# Altium integrated library NSC Switcher.IntLib: 2027 symbols (part 34 of 54)
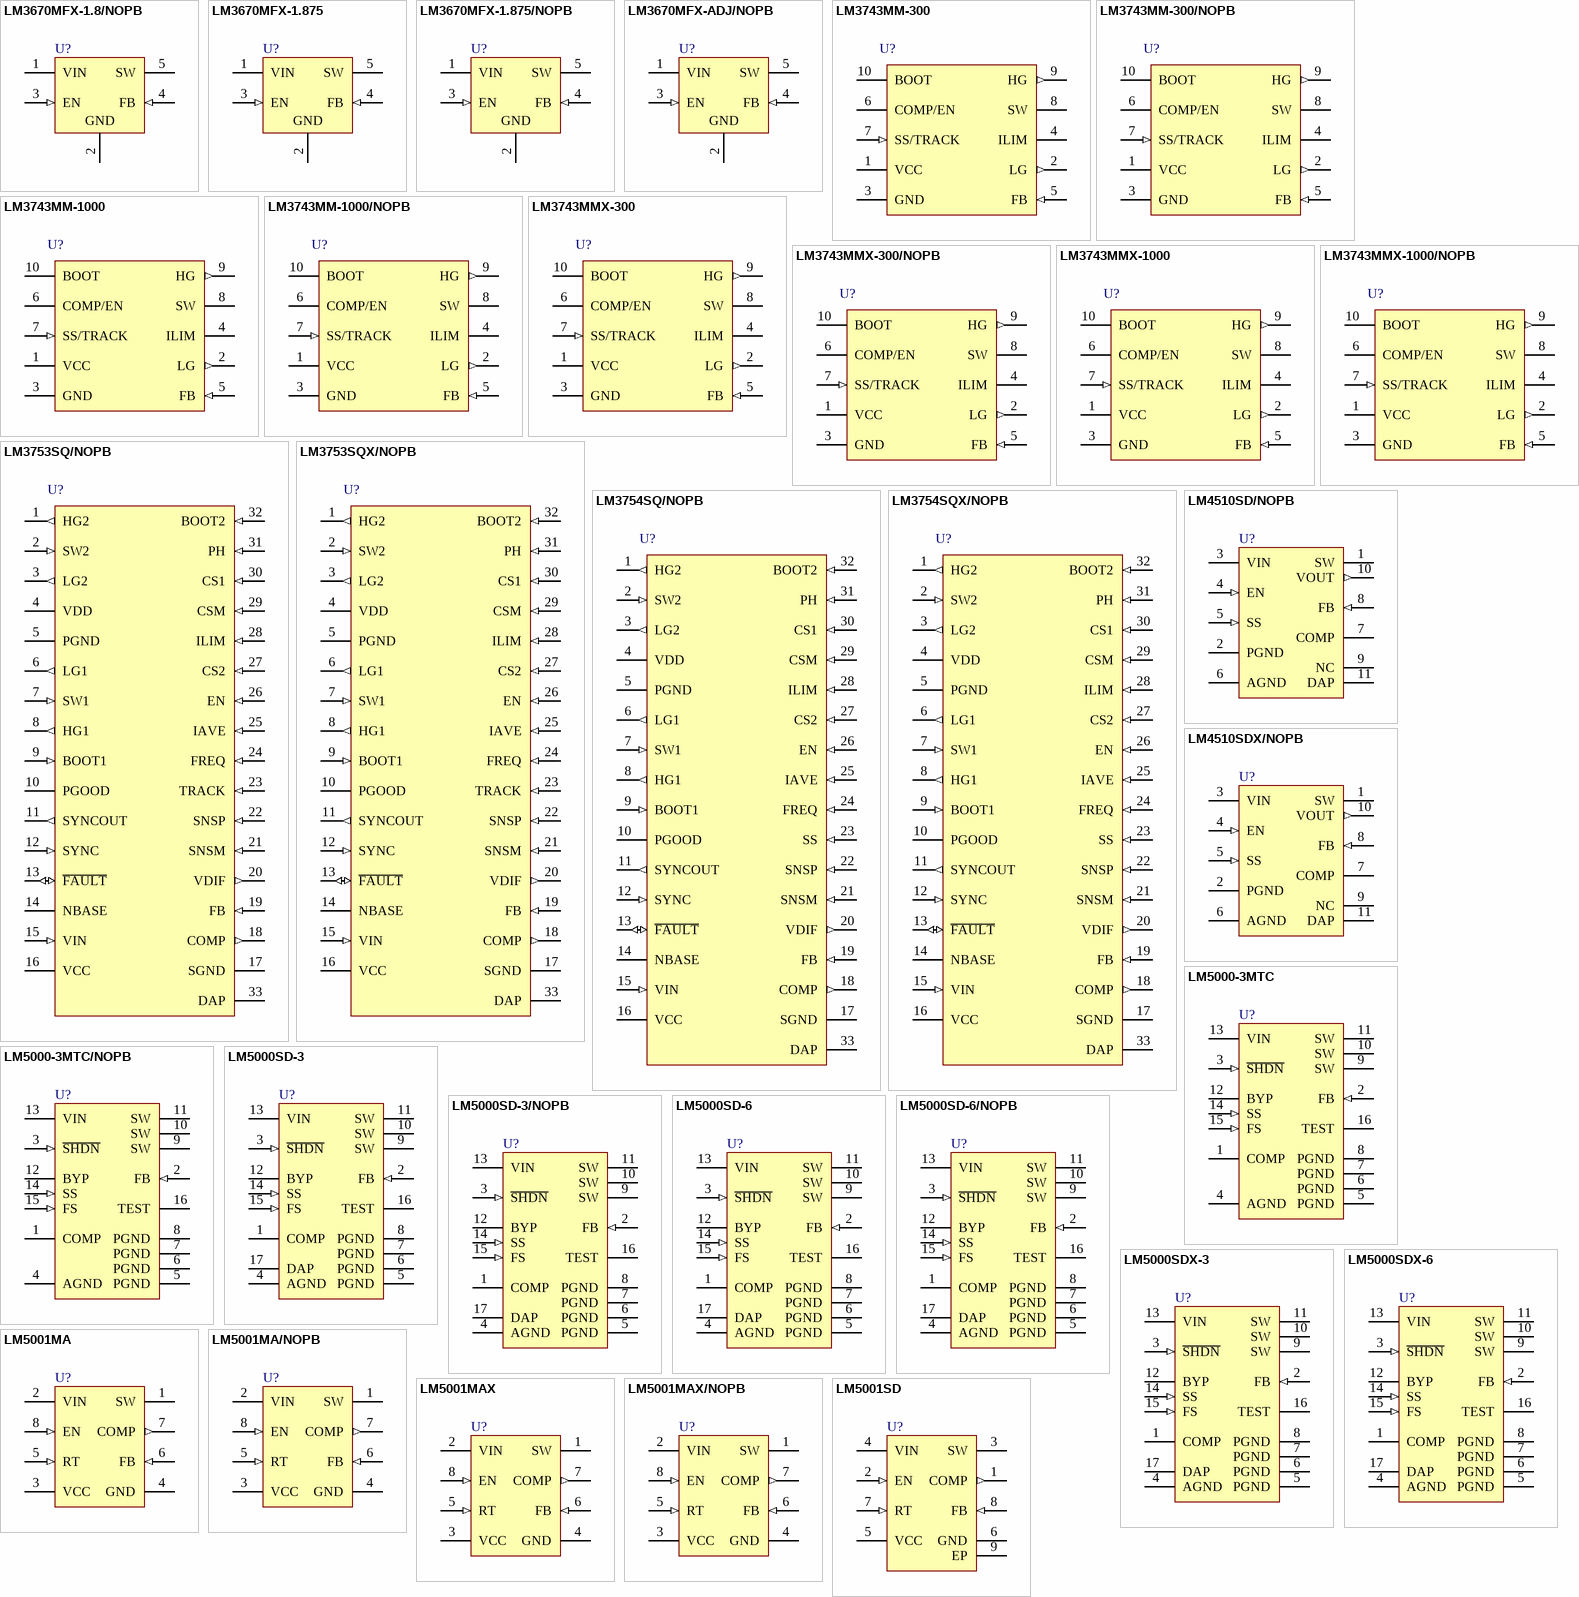
[diagram p96: symbols LM3670MFX-1.8/NOPB to LM5001SD]

## LM5000SDX-3
designator U?
High Voltage Switch Mode Regulator, 16-pin LLP; PartNumber: LM5000SDX-3; Manufacturer: National Semiconductor; PackageTopMarking: NS*UZXYTT*5000-3; PowerWise: N; CompType: Switcher; Published: 1-Mar-2010; DatasheetVersion: Feb-2007; PackageVersion: revA, May-2003; PackageReference: SDA16A; Publisher: Altium Limited; PackageDescription: LLP, Plastic, Dual, 5 x 5 x 0.8mm Body,16 Lead, 0.5mm Pitch, No Pullback; RoHS: N; PinCount: 16; ComponentLink1Description: LM5000 Datasheet; ComponentLink1URL: http://www.national.com/ds/LM/LM5000.pdf; ComponentLink2Description: LM5000 Web Page; ComponentLink2URL: http://www.national.com/pf/LM/LM5000.html; ComponentLink3Description: SDA16A Package Page; ComponentLink3URL: http://www.national.com/packaging/folders/sda16a.html
footprint SDA16A (SON, 16-Leads, Body 5x5mm, Pitch 0.5mm, NSC Recommended)
pins: 1 COMP, 2 FB (in), 3 ~{SHDN} (in), 4 AGND (power), 5 PGND (power), 6 PGND (power), 7 PGND (power), 8 PGND (power), 9 SW (power), 10 SW (power), 11 SW (power), 12 BYP, 13 VIN (power), 14 SS (in), 15 FS (in), 16 TEST, 17 DAP (power)

## LM5000SDX-6
designator U?
High Voltage Switch Mode Regulator, 16-pin LLP; PartNumber: LM5000SDX-6; Manufacturer: National Semiconductor; PackageTopMarking: NS*UZXYTT*5000-6; PowerWise: N; CompType: Switcher; Published: 1-Mar-2010; DatasheetVersion: Feb-2007; PackageVersion: revA, May-2003; PackageReference: SDA16A; Publisher: Altium Limited; PackageDescription: LLP, Plastic, Dual, 5 x 5 x 0.8mm Body,16 Lead, 0.5mm Pitch, No Pullback; RoHS: N; PinCount: 16; ComponentLink1Description: LM5000 Datasheet; ComponentLink1URL: http://www.national.com/ds/LM/LM5000.pdf; ComponentLink2Description: LM5000 Web Page; ComponentLink2URL: http://www.national.com/pf/LM/LM5000.html; ComponentLink3Description: SDA16A Package Page; ComponentLink3URL: http://www.national.com/packaging/folders/sda16a.html
footprint SDA16A (SON, 16-Leads, Body 5x5mm, Pitch 0.5mm, NSC Recommended)
pins: 1 COMP, 2 FB (in), 3 ~{SHDN} (in), 4 AGND (power), 5 PGND (power), 6 PGND (power), 7 PGND (power), 8 PGND (power), 9 SW (power), 10 SW (power), 11 SW (power), 12 BYP, 13 VIN (power), 14 SS (in), 15 FS (in), 16 TEST, 17 DAP (power)

## LM5001MA
designator U?
High Voltage Switch Mode Regulator, 8-pin Narrow SOIC; PartNumber: LM5001MA; Manufacturer: National Semiconductor; PackageTopMarking: NSZXTT*L5001*MA; PowerWise: N; CompType: Switcher; Published: 4-Dec-2008; DatasheetVersion: Mar-2009; PackageVersion: revM, May-2009; PackageReference: M08A; Publisher: Altium Limited; PackageDescription: SOIC Narrow, 4.9 x 3.9 x 1.45mm, 8 Lead, 1.27mm Pitch; Supplier 1: Farnell; Supplier Part Number 1: 1325417; RoHS: N; PinCount: 8; Code_JEDEC: MS-012-AA; Code_IPC: SOIC127P600-8; ComponentLink1Description: LM5001 Datasheet; ComponentLink1URL: http://www.national.com/ds/LM/LM5001.pdf; ComponentLink2Description: LM5001 Web Page; ComponentLink2URL: http://www.national.com/pf/LM/LM5001.html; ComponentLink3Description: M08A Package Page; ComponentLink3URL: http://www.national.com/packaging/folders/m08a.html
footprint M08A_N (SOIC, 8-Leads, Body 4.9x3.9mm, Pitch 1.27mm, IPC Medium Density)
footprint M08A_L (SOIC, 8-Leads, Body 4.9x3.9mm, Pitch 1.27mm, IPC High Density)
footprint M08A_M (SOIC, 8-Leads, Body 4.9x3.9mm, Pitch 1.27mm, IPC Low Density)
pins: 1 SW (power), 2 VIN (power), 3 VCC (power), 4 GND (power), 5 RT (in), 6 FB (in), 7 COMP (out), 8 EN (in)

## LM5001MA/NOPB
designator U?
High Voltage Switch Mode Regulator, 8-pin Narrow SOIC, Pb-Free; PartNumber: LM5001MA/NOPB; Manufacturer: National Semiconductor; PackageTopMarking: NSZXTT*L5001*MA; PowerWise: N; CompType: Switcher; Published: 1-Mar-2010; DatasheetVersion: Mar-2009; PackageVersion: revM, May-2009; PackageReference: M08A; Publisher: Altium Limited; PackageDescription: SOIC Narrow, 4.9 x 3.9 x 1.45mm, 8 Lead, 1.27mm Pitch; Supplier 1: Digi-Key; Supplier Part Number 1: LM5001MA-ND; Supplier 2: Farnell; Supplier Part Number 2: 1564779; RoHS: Y; PinCount: 8; Code_JEDEC: MS-012-AA; Code_IPC: SOIC127P600-8; ComponentLink1Description: LM5001 Datasheet; ComponentLink1URL: http://www.national.com/ds/LM/LM5001.pdf; ComponentLink2Description: LM5001 Web Page; ComponentLink2URL: http://www.national.com/pf/LM/LM5001.html; ComponentLink3Description: M08A Package Page; ComponentLink3URL: http://www.national.com/packaging/folders/m08a.html
footprint M08A_N (SOIC, 8-Leads, Body 4.9x3.9mm, Pitch 1.27mm, IPC Medium Density)
footprint M08A_L (SOIC, 8-Leads, Body 4.9x3.9mm, Pitch 1.27mm, IPC High Density)
footprint M08A_M (SOIC, 8-Leads, Body 4.9x3.9mm, Pitch 1.27mm, IPC Low Density)
pins: 1 SW (power), 2 VIN (power), 3 VCC (power), 4 GND (power), 5 RT (in), 6 FB (in), 7 COMP (out), 8 EN (in)

## LM5001MAX
designator U?
High Voltage Switch Mode Regulator, 8-pin Narrow SOIC; PartNumber: LM5001MAX; Manufacturer: National Semiconductor; PackageTopMarking: NSZXTT*L5001*MA; PowerWise: N; CompType: Switcher; Published: 1-Mar-2010; DatasheetVersion: Mar-2009; PackageVersion: revM, May-2009; PackageReference: M08A; Publisher: Altium Limited; PackageDescription: SOIC Narrow, 4.9 x 3.9 x 1.45mm, 8 Lead, 1.27mm Pitch; RoHS: N; PinCount: 8; Code_JEDEC: MS-012-AA; Code_IPC: SOIC127P600-8; ComponentLink1Description: LM5001 Datasheet; ComponentLink1URL: http://www.national.com/ds/LM/LM5001.pdf; ComponentLink2Description: LM5001 Web Page; ComponentLink2URL: http://www.national.com/pf/LM/LM5001.html; ComponentLink3Description: M08A Package Page; ComponentLink3URL: http://www.national.com/packaging/folders/m08a.html
footprint M08A_N (SOIC, 8-Leads, Body 4.9x3.9mm, Pitch 1.27mm, IPC Medium Density)
footprint M08A_L (SOIC, 8-Leads, Body 4.9x3.9mm, Pitch 1.27mm, IPC High Density)
footprint M08A_M (SOIC, 8-Leads, Body 4.9x3.9mm, Pitch 1.27mm, IPC Low Density)
pins: 1 SW (power), 2 VIN (power), 3 VCC (power), 4 GND (power), 5 RT (in), 6 FB (in), 7 COMP (out), 8 EN (in)

## LM5001MAX/NOPB
designator U?
High Voltage Switch Mode Regulator, 8-pin Narrow SOIC, Pb-Free; PartNumber: LM5001MAX/NOPB; Manufacturer: National Semiconductor; PackageTopMarking: NSZXTT*L5001*MA; PowerWise: N; CompType: Switcher; Published: 1-Mar-2010; DatasheetVersion: Mar-2009; PackageVersion: revM, May-2009; PackageReference: M08A; Publisher: Altium Limited; PackageDescription: SOIC Narrow, 4.9 x 3.9 x 1.45mm, 8 Lead, 1.27mm Pitch; Supplier 1: Digi-Key; Supplier Part Number 1: LM5001MAX-ND; RoHS: Y; PinCount: 8; Code_JEDEC: MS-012-AA; Code_IPC: SOIC127P600-8; ComponentLink1Description: LM5001 Datasheet; ComponentLink1URL: http://www.national.com/ds/LM/LM5001.pdf; ComponentLink2Description: LM5001 Web Page; ComponentLink2URL: http://www.national.com/pf/LM/LM5001.html; ComponentLink3Description: M08A Package Page; ComponentLink3URL: http://www.national.com/packaging/folders/m08a.html
footprint M08A_N (SOIC, 8-Leads, Body 4.9x3.9mm, Pitch 1.27mm, IPC Medium Density)
footprint M08A_L (SOIC, 8-Leads, Body 4.9x3.9mm, Pitch 1.27mm, IPC High Density)
footprint M08A_M (SOIC, 8-Leads, Body 4.9x3.9mm, Pitch 1.27mm, IPC Low Density)
pins: 1 SW (power), 2 VIN (power), 3 VCC (power), 4 GND (power), 5 RT (in), 6 FB (in), 7 COMP (out), 8 EN (in)

## LM5001SD
designator U?
High Voltage Switch Mode Regulator, 8-pin LLP; PartNumber: LM5001SD; Manufacturer: National Semiconductor; PackageTopMarking: NS*UZXYTT*LM5001; PowerWise: N; CompType: Switcher; Published: 4-Dec-2008; LatestRevisionDate: 28-Jan-2010; LatestRevisionNote: Sch pinout fixed.; DatasheetVersion: Mar-2009; PackageVersion: revA, Jun-2003; PackageReference: SDC08A; Publisher: Altium Limited; PackageDescription: LLP, Plastic, Dual, 4 x 4 x 0.8mm Body, 8 Lead, 0.8mm Pitch, No Pullback; Supplier 1: Farnell; Supplier Part Number 1: 1370032; RoHS: Y; PinCount: 8; ComponentLink1Description: LM5001 Datasheet; ComponentLink1URL: http://www.national.com/ds/LM/LM5001.pdf; ComponentLink2Description: LM5001 Web Page; ComponentLink2URL: http://www.national.com/pf/LM/LM5001.html; ComponentLink3Description: SDC08A Package Page; ComponentLink3URL: http://www.national.com/packaging/folders/sdc08a.html
footprint SDC08A (SON, 8-Leads, Body 4x4mm, Pitch 0.8mm, NSC Recommended)
pins: 1 COMP (out), 2 EN (in), 3 SW (power), 4 VIN (power), 5 VCC (power), 6 GND (power), 7 RT (in), 8 FB (in), 9 EP (power)

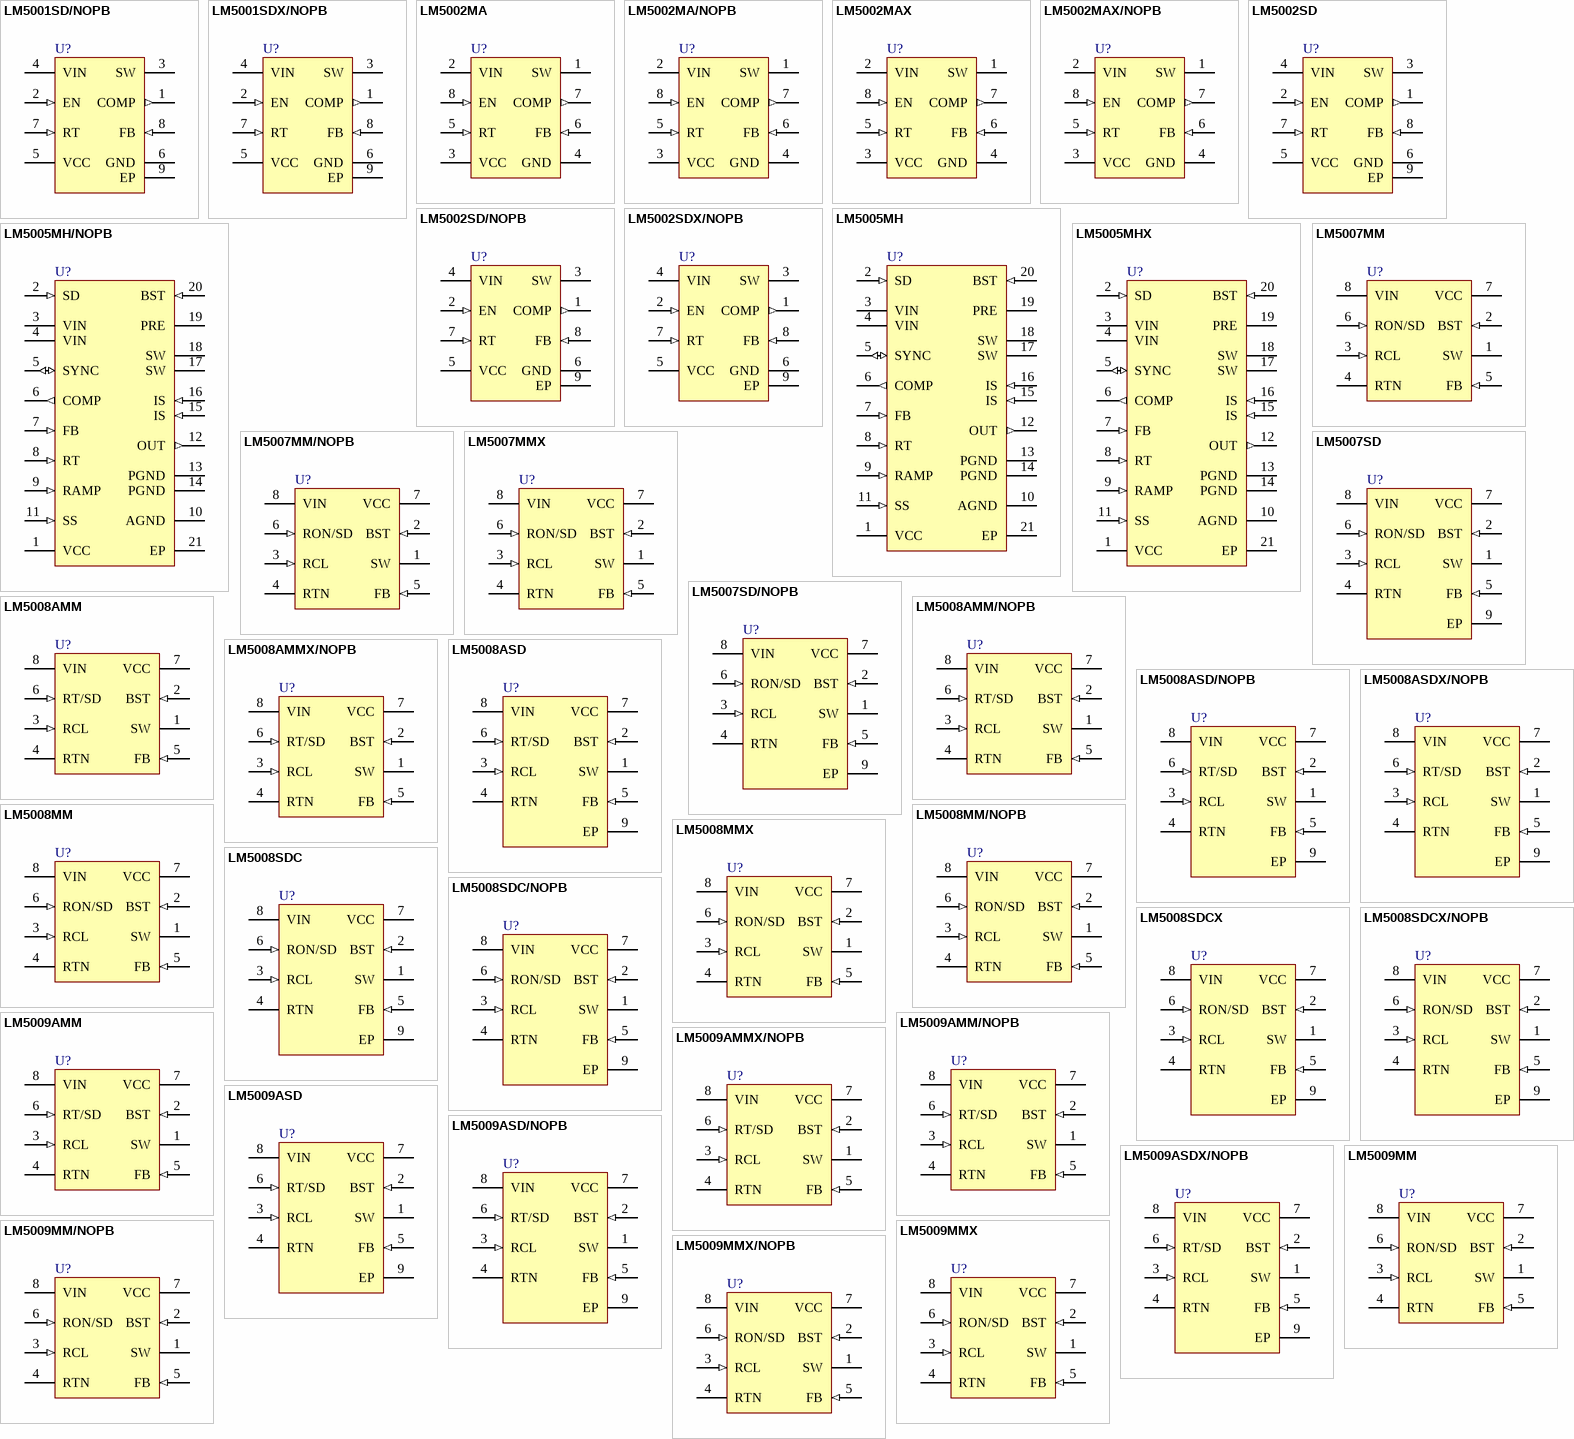
[diagram p37: symbols LM5001SD/NOPB to LM5009MMX/NOPB]

## LM5001SD/NOPB
designator U?
High Voltage Switch Mode Regulator, 8-pin LLP, Pb-Free; PartNumber: LM5001SD/NOPB; Manufacturer: National Semiconductor; PackageTopMarking: NS*UZXYTT*LM5001; PowerWise: N; CompType: Switcher; Published: 1-Mar-2010; DatasheetVersion: Mar-2009; PackageVersion: revA, Jun-2003; PackageReference: SDC08A; Publisher: Altium Limited; PackageDescription: LLP, Plastic, Dual, 4 x 4 x 0.8mm Body, 8 Lead, 0.8mm Pitch, No Pullback; Supplier 1: Digi-Key; Supplier Part Number 1: LM5001SDTR-ND; Supplier 2: Digi-Key; Supplier Part Number 2: LM5001SDCT-ND; Supplier 3: Digi-Key; Supplier Part Number 3: LM5001SDDKR-ND; RoHS: Y; PinCount: 8; ComponentLink1Description: LM5001 Datasheet; ComponentLink1URL: http://www.national.com/ds/LM/LM5001.pdf; ComponentLink2Description: LM5001 Web Page; ComponentLink2URL: http://www.national.com/pf/LM/LM5001.html; ComponentLink3Description: SDC08A Package Page; ComponentLink3URL: http://www.national.com/packaging/folders/sdc08a.html
footprint SDC08A (SON, 8-Leads, Body 4x4mm, Pitch 0.8mm, NSC Recommended)
pins: 1 COMP (out), 2 EN (in), 3 SW (power), 4 VIN (power), 5 VCC (power), 6 GND (power), 7 RT (in), 8 FB (in), 9 EP (power)

## LM5001SDX/NOPB
designator U?
High Voltage Switch Mode Regulator, 8-pin LLP, Pb-Free; PartNumber: LM5001SDX/NOPB; Manufacturer: National Semiconductor; PackageTopMarking: NS*UZXYTT*LM5001; PowerWise: N; CompType: Switcher; Published: 1-Mar-2010; DatasheetVersion: Mar-2009; PackageVersion: revA, Jun-2003; PackageReference: SDC08A; Publisher: Altium Limited; PackageDescription: LLP, Plastic, Dual, 4 x 4 x 0.8mm Body, 8 Lead, 0.8mm Pitch, No Pullback; Supplier 1: Digi-Key; Supplier Part Number 1: LM5001SDX-ND; RoHS: Y; PinCount: 8; ComponentLink1Description: LM5001 Datasheet; ComponentLink1URL: http://www.national.com/ds/LM/LM5001.pdf; ComponentLink2Description: LM5001 Web Page; ComponentLink2URL: http://www.national.com/pf/LM/LM5001.html; ComponentLink3Description: SDC08A Package Page; ComponentLink3URL: http://www.national.com/packaging/folders/sdc08a.html
footprint SDC08A (SON, 8-Leads, Body 4x4mm, Pitch 0.8mm, NSC Recommended)
pins: 1 COMP (out), 2 EN (in), 3 SW (power), 4 VIN (power), 5 VCC (power), 6 GND (power), 7 RT (in), 8 FB (in), 9 EP (power)

## LM5002MA
designator U?
High Voltage Switch Mode Regulator, 8-pin Narrow SOIC; PartNumber: LM5002MA; Manufacturer: National Semiconductor; PackageTopMarking: NSZXTT*L5002*MA; PowerWise: N; CompType: Switcher; Published: 4-Dec-2008; DatasheetVersion: Mar-2009; PackageVersion: revM, May-2009; PackageReference: M08A; Publisher: Altium Limited; PackageDescription: SOIC Narrow, 4.9 x 3.9 x 1.45mm, 8 Lead, 1.27mm Pitch; Supplier 1: Farnell; Supplier Part Number 1: 1325418; RoHS: N; PinCount: 8; Code_JEDEC: MS-012-AA; Code_IPC: SOIC127P600-8; ComponentLink1Description: LM5002 Datasheet; ComponentLink1URL: http://www.national.com/ds/LM/LM5002.pdf; ComponentLink2Description: LM5002 Web Page; ComponentLink2URL: http://www.national.com/pf/LM/LM5002.html; ComponentLink3Description: M08A Package Page; ComponentLink3URL: http://www.national.com/packaging/folders/m08a.html
footprint M08A_N (SOIC, 8-Leads, Body 4.9x3.9mm, Pitch 1.27mm, IPC Medium Density)
footprint M08A_L (SOIC, 8-Leads, Body 4.9x3.9mm, Pitch 1.27mm, IPC High Density)
footprint M08A_M (SOIC, 8-Leads, Body 4.9x3.9mm, Pitch 1.27mm, IPC Low Density)
pins: 1 SW (power), 2 VIN (power), 3 VCC (power), 4 GND (power), 5 RT (in), 6 FB (in), 7 COMP (out), 8 EN (in)

## LM5002MA/NOPB
designator U?
High Voltage Switch Mode Regulator, 8-pin Narrow SOIC, Pb-Free; PartNumber: LM5002MA/NOPB; Manufacturer: National Semiconductor; PackageTopMarking: NSZXTT*L5002*MA; PowerWise: N; CompType: Switcher; Published: 1-Mar-2010; DatasheetVersion: Mar-2009; PackageVersion: revM, May-2009; PackageReference: M08A; Publisher: Altium Limited; PackageDescription: SOIC Narrow, 4.9 x 3.9 x 1.45mm, 8 Lead, 1.27mm Pitch; Supplier 1: Digi-Key; Supplier Part Number 1: LM5002MA-ND; Supplier 2: Farnell; Supplier Part Number 2: 1559277; RoHS: Y; PinCount: 8; Code_JEDEC: MS-012-AA; Code_IPC: SOIC127P600-8; ComponentLink1Description: LM5002 Datasheet; ComponentLink1URL: http://www.national.com/ds/LM/LM5002.pdf; ComponentLink2Description: LM5002 Web Page; ComponentLink2URL: http://www.national.com/pf/LM/LM5002.html; ComponentLink3Description: M08A Package Page; ComponentLink3URL: http://www.national.com/packaging/folders/m08a.html
footprint M08A_N (SOIC, 8-Leads, Body 4.9x3.9mm, Pitch 1.27mm, IPC Medium Density)
footprint M08A_L (SOIC, 8-Leads, Body 4.9x3.9mm, Pitch 1.27mm, IPC High Density)
footprint M08A_M (SOIC, 8-Leads, Body 4.9x3.9mm, Pitch 1.27mm, IPC Low Density)
pins: 1 SW (power), 2 VIN (power), 3 VCC (power), 4 GND (power), 5 RT (in), 6 FB (in), 7 COMP (out), 8 EN (in)

## LM5002MAX
designator U?
High Voltage Switch Mode Regulator, 8-pin Narrow SOIC; PartNumber: LM5002MAX; Manufacturer: National Semiconductor; PackageTopMarking: NSZXTT*L5002*MA; PowerWise: N; CompType: Switcher; Published: 1-Mar-2010; DatasheetVersion: Mar-2009; PackageVersion: revM, May-2009; PackageReference: M08A; Publisher: Altium Limited; PackageDescription: SOIC Narrow, 4.9 x 3.9 x 1.45mm, 8 Lead, 1.27mm Pitch; RoHS: N; PinCount: 8; Code_JEDEC: MS-012-AA; Code_IPC: SOIC127P600-8; ComponentLink1Description: LM5002 Datasheet; ComponentLink1URL: http://www.national.com/ds/LM/LM5002.pdf; ComponentLink2Description: LM5002 Web Page; ComponentLink2URL: http://www.national.com/pf/LM/LM5002.html; ComponentLink3Description: M08A Package Page; ComponentLink3URL: http://www.national.com/packaging/folders/m08a.html
footprint M08A_N (SOIC, 8-Leads, Body 4.9x3.9mm, Pitch 1.27mm, IPC Medium Density)
footprint M08A_L (SOIC, 8-Leads, Body 4.9x3.9mm, Pitch 1.27mm, IPC High Density)
footprint M08A_M (SOIC, 8-Leads, Body 4.9x3.9mm, Pitch 1.27mm, IPC Low Density)
pins: 1 SW (power), 2 VIN (power), 3 VCC (power), 4 GND (power), 5 RT (in), 6 FB (in), 7 COMP (out), 8 EN (in)

## LM5002MAX/NOPB
designator U?
High Voltage Switch Mode Regulator, 8-pin Narrow SOIC, Pb-Free; PartNumber: LM5002MAX/NOPB; Manufacturer: National Semiconductor; PackageTopMarking: NSZXTT*L5002*MA; PowerWise: N; CompType: Switcher; Published: 1-Mar-2010; DatasheetVersion: Mar-2009; PackageVersion: revM, May-2009; PackageReference: M08A; Publisher: Altium Limited; PackageDescription: SOIC Narrow, 4.9 x 3.9 x 1.45mm, 8 Lead, 1.27mm Pitch; Supplier 1: Digi-Key; Supplier Part Number 1: LM5002MAX-ND; RoHS: Y; PinCount: 8; Code_JEDEC: MS-012-AA; Code_IPC: SOIC127P600-8; ComponentLink1Description: LM5002 Datasheet; ComponentLink1URL: http://www.national.com/ds/LM/LM5002.pdf; ComponentLink2Description: LM5002 Web Page; ComponentLink2URL: http://www.national.com/pf/LM/LM5002.html; ComponentLink3Description: M08A Package Page; ComponentLink3URL: http://www.national.com/packaging/folders/m08a.html
footprint M08A_N (SOIC, 8-Leads, Body 4.9x3.9mm, Pitch 1.27mm, IPC Medium Density)
footprint M08A_L (SOIC, 8-Leads, Body 4.9x3.9mm, Pitch 1.27mm, IPC High Density)
footprint M08A_M (SOIC, 8-Leads, Body 4.9x3.9mm, Pitch 1.27mm, IPC Low Density)
pins: 1 SW (power), 2 VIN (power), 3 VCC (power), 4 GND (power), 5 RT (in), 6 FB (in), 7 COMP (out), 8 EN (in)

## LM5002SD
designator U?
High Voltage Switch Mode Regulator, 8-pin LLP; PartNumber: LM5002SD; Manufacturer: National Semiconductor; PackageTopMarking: NS*UZXYTT*LM5002; PowerWise: N; CompType: Switcher; Published: 4-Dec-2008; LatestRevisionDate: 28-Jan-2010; LatestRevisionNote: Sch pinout fixed.; DatasheetVersion: Mar-2009; PackageVersion: revA, Jun-2003; PackageReference: SDC08A; Publisher: Altium Limited; PackageDescription: LLP, Plastic, Dual, 4 x 4 x 0.8mm Body, 8 Lead, 0.8mm Pitch, No Pullback; RoHS: Y; PinCount: 8; ComponentLink1Description: LM5002 Datasheet; ComponentLink1URL: http://www.national.com/ds/LM/LM5002.pdf; ComponentLink2Description: LM5002 Web Page; ComponentLink2URL: http://www.national.com/pf/LM/LM5002.html; ComponentLink3Description: SDC08A Package Page; ComponentLink3URL: http://www.national.com/packaging/folders/sdc08a.html
footprint SDC08A (SON, 8-Leads, Body 4x4mm, Pitch 0.8mm, NSC Recommended)
pins: 1 COMP (out), 2 EN (in), 3 SW (power), 4 VIN (power), 5 VCC (power), 6 GND (power), 7 RT (in), 8 FB (in), 9 EP (power)

## LM5002SD/NOPB
designator U?
High Voltage Switch Mode Regulator, 8-pin LLP, Pb-Free; PartNumber: LM5002SD/NOPB; Manufacturer: National Semiconductor; PackageTopMarking: NS*UZXYTT*LM5002; PowerWise: N; CompType: Switcher; Published: 1-Mar-2010; DatasheetVersion: Mar-2009; PackageVersion: revA, Jun-2003; PackageReference: SDC08A; Publisher: Altium Limited; PackageDescription: LLP, Plastic, Dual, 4 x 4 x 0.8mm Body, 8 Lead, 0.8mm Pitch, No Pullback; Supplier 1: Digi-Key; Supplier Part Number 1: LM5002SDTR-ND; Supplier 2: Digi-Key; Supplier Part Number 2: LM5002SDCT-ND; Supplier 3: Digi-Key; Supplier Part Number 3: LM5002SDDKR-ND; RoHS: Y; PinCount: 8; ComponentLink1Description: LM5002 Datasheet; ComponentLink1URL: http://www.national.com/ds/LM/LM5002.pdf; ComponentLink2Description: LM5002 Web Page; ComponentLink2URL: http://www.national.com/pf/LM/LM5002.html; ComponentLink3Description: SDC08A Package Page; ComponentLink3URL: http://www.national.com/packaging/folders/sdc08a.html
footprint SDC08A (SON, 8-Leads, Body 4x4mm, Pitch 0.8mm, NSC Recommended)
pins: 1 COMP (out), 2 EN (in), 3 SW (power), 4 VIN (power), 5 VCC (power), 6 GND (power), 7 RT (in), 8 FB (in), 9 EP (power)

## LM5002SDX/NOPB
designator U?
High Voltage Switch Mode Regulator, 8-pin LLP, Pb-Free; PartNumber: LM5002SDX/NOPB; Manufacturer: National Semiconductor; PackageTopMarking: NS*UZXYTT*LM5002; PowerWise: N; CompType: Switcher; Published: 1-Mar-2010; DatasheetVersion: Mar-2009; PackageVersion: revA, Jun-2003; PackageReference: SDC08A; Publisher: Altium Limited; PackageDescription: LLP, Plastic, Dual, 4 x 4 x 0.8mm Body, 8 Lead, 0.8mm Pitch, No Pullback; Supplier 1: Digi-Key; Supplier Part Number 1: LM5002SDX-ND; RoHS: Y; PinCount: 8; ComponentLink1Description: LM5002 Datasheet; ComponentLink1URL: http://www.national.com/ds/LM/LM5002.pdf; ComponentLink2Description: LM5002 Web Page; ComponentLink2URL: http://www.national.com/pf/LM/LM5002.html; ComponentLink3Description: SDC08A Package Page; ComponentLink3URL: http://www.national.com/packaging/folders/sdc08a.html
footprint SDC08A (SON, 8-Leads, Body 4x4mm, Pitch 0.8mm, NSC Recommended)
pins: 1 COMP (out), 2 EN (in), 3 SW (power), 4 VIN (power), 5 VCC (power), 6 GND (power), 7 RT (in), 8 FB (in), 9 EP (power)

## LM5005MH
designator U?
High Voltage 2.5 Amp Buck Regulator, 20-pin TSSOP-EP; PartNumber: LM5005MH; Manufacturer: National Semiconductor; PackageTopMarking: NSUZXYTT*LM5005*MH; PowerWise: N; CompType: Switcher; Published: 4-Dec-2008; DatasheetVersion: Mar-2006; PackageVersion: revC, Jul-2006; PackageReference: MXA20A; Publisher: Altium Limited; PackageDescription: Molded TSSOP, Jedec, 6.5 x 4.4 x 0.9mm Body, 20 Lead, 0.65mm Pitch, Exposed Pad; Supplier 1: Farnell; Supplier Part Number 1: 1286761; RoHS: N; PinCount: 20; Code_JEDEC: MO-153-ACT; ComponentLink1Description: LM5005 Datasheet; ComponentLink1URL: http://www.national.com/ds/LM/LM5005.pdf; ComponentLink2Description: LM5005 Web Page; ComponentLink2URL: http://www.national.com/pf/LM/LM5005.html; ComponentLink3Description: MXA20A Package Page; ComponentLink3URL: http://www.national.com/packaging/folders/mxa20a.html
footprint MXA20A_N (TSOP, 20-Leads, Body 6.5x4.4mm, Pitch 0.65mm, Exposed Pad, IPC Medium Density)
footprint MXA20A_L (TSOP, 20-Leads, Body 6.5x4.4mm, Pitch 0.65mm, Exposed Pad, IPC High Density)
footprint MXA20A_M (TSOP, 20-Leads, Body 6.5x4.4mm, Pitch 0.65mm, Exposed Pad, IPC Low Density)
pins: 1 VCC (power), 2 SD (in), 3 VIN (power), 4 VIN (power), 5 SYNC (io), 6 COMP (out), 7 FB (in), 8 RT (in), 9 RAMP (in), 10 AGND (power), 11 SS (in), 12 OUT (out), 13 PGND (power), 14 PGND (power), 15 IS (in), 16 IS (in), 17 SW (power), 18 SW (power), 19 PRE (oc), 20 BST (in), 21 EP (power)

## LM5005MH/NOPB
designator U?
High Voltage 2.5 Amp Buck Regulator, 20-pin TSSOP-EP, Pb-Free; PartNumber: LM5005MH/NOPB; Manufacturer: National Semiconductor; PackageTopMarking: NSUZXYTT*LM5005*MH; PowerWise: N; CompType: Switcher; Published: 1-Mar-2010; DatasheetVersion: Mar-2006; PackageVersion: revC, Jul-2006; PackageReference: MXA20A; Publisher: Altium Limited; PackageDescription: Molded TSSOP, Jedec, 6.5 x 4.4 x 0.9mm Body, 20 Lead, 0.65mm Pitch, Exposed Pad; Supplier 1: Digi-Key; Supplier Part Number 1: LM5005MH-ND; RoHS: Y; PinCount: 20; Code_JEDEC: MO-153-ACT; ComponentLink1Description: LM5005 Datasheet; ComponentLink1URL: http://www.national.com/ds/LM/LM5005.pdf; ComponentLink2Description: LM5005 Web Page; ComponentLink2URL: http://www.national.com/pf/LM/LM5005.html; ComponentLink3Description: MXA20A Package Page; ComponentLink3URL: http://www.national.com/packaging/folders/mxa20a.html
footprint MXA20A_N (TSOP, 20-Leads, Body 6.5x4.4mm, Pitch 0.65mm, Exposed Pad, IPC Medium Density)
footprint MXA20A_L (TSOP, 20-Leads, Body 6.5x4.4mm, Pitch 0.65mm, Exposed Pad, IPC High Density)
footprint MXA20A_M (TSOP, 20-Leads, Body 6.5x4.4mm, Pitch 0.65mm, Exposed Pad, IPC Low Density)
pins: 1 VCC (power), 2 SD (in), 3 VIN (power), 4 VIN (power), 5 SYNC (io), 6 COMP (out), 7 FB (in), 8 RT (in), 9 RAMP (in), 10 AGND (power), 11 SS (in), 12 OUT (out), 13 PGND (power), 14 PGND (power), 15 IS (in), 16 IS (in), 17 SW (power), 18 SW (power), 19 PRE (oc), 20 BST (in), 21 EP (power)

## LM5005MHX
designator U?
High Voltage 2.5 Amp Buck Regulator, 20-pin TSSOP-EP; PartNumber: LM5005MHX; Manufacturer: National Semiconductor; PackageTopMarking: NSUZXYTT*LM5005*MH; PowerWise: N; CompType: Switcher; Published: 1-Mar-2010; DatasheetVersion: Mar-2006; PackageVersion: revC, Jul-2006; PackageReference: MXA20A; Publisher: Altium Limited; PackageDescription: Molded TSSOP, Jedec, 6.5 x 4.4 x 0.9mm Body, 20 Lead, 0.65mm Pitch, Exposed Pad; RoHS: N; PinCount: 20; Code_JEDEC: MO-153-ACT; ComponentLink1Description: LM5005 Datasheet; ComponentLink1URL: http://www.national.com/ds/LM/LM5005.pdf; ComponentLink2Description: LM5005 Web Page; ComponentLink2URL: http://www.national.com/pf/LM/LM5005.html; ComponentLink3Description: MXA20A Package Page; ComponentLink3URL: http://www.national.com/packaging/folders/mxa20a.html
footprint MXA20A_N (TSOP, 20-Leads, Body 6.5x4.4mm, Pitch 0.65mm, Exposed Pad, IPC Medium Density)
footprint MXA20A_L (TSOP, 20-Leads, Body 6.5x4.4mm, Pitch 0.65mm, Exposed Pad, IPC High Density)
footprint MXA20A_M (TSOP, 20-Leads, Body 6.5x4.4mm, Pitch 0.65mm, Exposed Pad, IPC Low Density)
pins: 1 VCC (power), 2 SD (in), 3 VIN (power), 4 VIN (power), 5 SYNC (io), 6 COMP (out), 7 FB (in), 8 RT (in), 9 RAMP (in), 10 AGND (power), 11 SS (in), 12 OUT (out), 13 PGND (power), 14 PGND (power), 15 IS (in), 16 IS (in), 17 SW (power), 18 SW (power), 19 PRE (oc), 20 BST (in), 21 EP (power)

## LM5007MM
designator U?
High Voltage (80V) Step Down Switching Regulator, 8-pin MSOP; PartNumber: LM5007MM; Manufacturer: National Semiconductor; PackageTopMarking: ZXTT*S81B; PowerWise: N; CompType: Switcher; Published: 4-Dec-2008; DatasheetVersion: Feb-2008; PackageVersion: revF, Apr-2008; PackageReference: MUA08A; Publisher: Altium Limited; PackageDescription: MINI SOIC, .118 x .118 x .034in, 8 Lead, .0256in Pitch; Supplier 1: Digi-Key; Supplier Part Number 1: LM5007MMDKR-ND; Supplier 2: Farnell; Supplier Part Number 2: 9779345; Supplier 3: Farnell; Supplier Part Number 3: 9779345RL; RoHS: N; PinCount: 8; Code_JEDEC: MO-187-AA; ComponentLink1Description: LM5007 Datasheet; ComponentLink1URL: http://www.national.com/ds/LM/LM5007.pdf; ComponentLink2Description: LM5007 Web Page; ComponentLink2URL: http://www.national.com/pf/LM/LM5007.html; ComponentLink3Description: MUA08A Package Page; ComponentLink3URL: http://www.national.com/packaging/folders/mua08a.html
footprint MUA08A_N (TSOP, 8-Leads, Body 3x3mm, Pitch 0.65mm, IPC Medium Density)
footprint MUA08A_L (TSOP, 8-Leads, Body 3x3mm, Pitch 0.65mm, IPC High Density)
footprint MUA08A_M (TSOP, 8-Leads, Body 3x3mm, Pitch 0.65mm, IPC Low Density)
pins: 1 SW (power), 2 BST (in), 3 RCL (in), 4 RTN (power), 5 FB (in), 6 RON/SD (in), 7 VCC (power), 8 VIN (power)

## LM5007MM/NOPB
designator U?
High Voltage (80V) Step Down Switching Regulator, 8-pin MSOP, Pb-Free; PartNumber: LM5007MM/NOPB; Manufacturer: National Semiconductor; PackageTopMarking: ZXTT*S81B; PowerWise: N; CompType: Switcher; Published: 1-Mar-2010; DatasheetVersion: Feb-2008; PackageVersion: revF, Apr-2008; PackageReference: MUA08A; Publisher: Altium Limited; PackageDescription: MINI SOIC, .118 x .118 x .034in, 8 Lead, .0256in Pitch; Supplier 1: Digi-Key; Supplier Part Number 1: LM5007MMTR-ND; Supplier 2: Digi-Key; Supplier Part Number 2: LM5007MMCT-ND; Supplier 3: Farnell; Supplier Part Number 3: 1496179; RoHS: Y; PinCount: 8; Code_JEDEC: MO-187-AA; ComponentLink1Description: LM5007 Datasheet; ComponentLink1URL: http://www.national.com/ds/LM/LM5007.pdf; ComponentLink2Description: LM5007 Web Page; ComponentLink2URL: http://www.national.com/pf/LM/LM5007.html; ComponentLink3Description: MUA08A Package Page; ComponentLink3URL: http://www.national.com/packaging/folders/mua08a.html
footprint MUA08A_N (TSOP, 8-Leads, Body 3x3mm, Pitch 0.65mm, IPC Medium Density)
footprint MUA08A_L (TSOP, 8-Leads, Body 3x3mm, Pitch 0.65mm, IPC High Density)
footprint MUA08A_M (TSOP, 8-Leads, Body 3x3mm, Pitch 0.65mm, IPC Low Density)
pins: 1 SW (power), 2 BST (in), 3 RCL (in), 4 RTN (power), 5 FB (in), 6 RON/SD (in), 7 VCC (power), 8 VIN (power)

## LM5007MMX
designator U?
High Voltage (80V) Step Down Switching Regulator, 8-pin MSOP; PartNumber: LM5007MMX; Manufacturer: National Semiconductor; PackageTopMarking: ZXTT*S81B; PowerWise: N; CompType: Switcher; Published: 1-Mar-2010; DatasheetVersion: Feb-2008; PackageVersion: revF, Apr-2008; PackageReference: MUA08A; Publisher: Altium Limited; PackageDescription: MINI SOIC, .118 x .118 x .034in, 8 Lead, .0256in Pitch; RoHS: N; PinCount: 8; Code_JEDEC: MO-187-AA; ComponentLink1Description: LM5007 Datasheet; ComponentLink1URL: http://www.national.com/ds/LM/LM5007.pdf; ComponentLink2Description: LM5007 Web Page; ComponentLink2URL: http://www.national.com/pf/LM/LM5007.html; ComponentLink3Description: MUA08A Package Page; ComponentLink3URL: http://www.national.com/packaging/folders/mua08a.html
footprint MUA08A_N (TSOP, 8-Leads, Body 3x3mm, Pitch 0.65mm, IPC Medium Density)
footprint MUA08A_L (TSOP, 8-Leads, Body 3x3mm, Pitch 0.65mm, IPC High Density)
footprint MUA08A_M (TSOP, 8-Leads, Body 3x3mm, Pitch 0.65mm, IPC Low Density)
pins: 1 SW (power), 2 BST (in), 3 RCL (in), 4 RTN (power), 5 FB (in), 6 RON/SD (in), 7 VCC (power), 8 VIN (power)

## LM5007SD
designator U?
High Voltage (80V) Step Down Switching Regulator, 8-pin LLP; PartNumber: LM5007SD; Manufacturer: National Semiconductor; PackageTopMarking: NS*UZXYTT*L00031B; PowerWise: N; CompType: Switcher; Published: 4-Dec-2008; DatasheetVersion: Feb-2008; PackageVersion: revA, Jun-2003; PackageReference: SDC08A; Publisher: Altium Limited; PackageDescription: LLP, Plastic, Dual, 4 x 4 x 0.8mm Body, 8 Lead, 0.8mm Pitch, No Pullback; RoHS: N; PinCount: 8; ComponentLink1Description: LM5007 Datasheet; ComponentLink1URL: http://www.national.com/ds/LM/LM5007.pdf; ComponentLink2Description: LM5007 Web Page; ComponentLink2URL: http://www.national.com/pf/LM/LM5007.html; ComponentLink3Description: SDC08A Package Page; ComponentLink3URL: http://www.national.com/packaging/folders/sdc08a.html
footprint SDC08A (SON, 8-Leads, Body 4x4mm, Pitch 0.8mm, NSC Recommended)
pins: 1 SW (power), 2 BST (in), 3 RCL (in), 4 RTN (power), 5 FB (in), 6 RON/SD (in), 7 VCC (power), 8 VIN (power), 9 EP (power)

## LM5007SD/NOPB
designator U?
High Voltage (80V) Step Down Switching Regulator, 8-pin LLP, Pb-Free; PartNumber: LM5007SD/NOPB; Manufacturer: National Semiconductor; PackageTopMarking: NS*UZXYTT*L00031B; PowerWise: N; CompType: Switcher; Published: 1-Mar-2010; DatasheetVersion: Feb-2008; PackageVersion: revA, Jun-2003; PackageReference: SDC08A; Publisher: Altium Limited; PackageDescription: LLP, Plastic, Dual, 4 x 4 x 0.8mm Body, 8 Lead, 0.8mm Pitch, No Pullback; Supplier 1: Digi-Key; Supplier Part Number 1: LM5007SDTR-ND; Supplier 2: Digi-Key; Supplier Part Number 2: LM5007SDCT-ND; Supplier 3: Digi-Key; Supplier Part Number 3: LM5007SDDKR-ND; Supplier 4: Farnell; Supplier Part Number 4: 1685543; RoHS: Y; PinCount: 8; ComponentLink1Description: LM5007 Datasheet; ComponentLink1URL: http://www.national.com/ds/LM/LM5007.pdf; ComponentLink2Description: LM5007 Web Page; ComponentLink2URL: http://www.national.com/pf/LM/LM5007.html; ComponentLink3Description: SDC08A Package Page; ComponentLink3URL: http://www.national.com/packaging/folders/sdc08a.html
footprint SDC08A (SON, 8-Leads, Body 4x4mm, Pitch 0.8mm, NSC Recommended)
pins: 1 SW (power), 2 BST (in), 3 RCL (in), 4 RTN (power), 5 FB (in), 6 RON/SD (in), 7 VCC (power), 8 VIN (power), 9 EP (power)

## LM5008AMM
designator U?
High Voltage (100V) Step Down Switching Regulator, 8-pin MSOP; PartNumber: LM5008AMM; Manufacturer: National Semiconductor; PackageTopMarking: ZXTT*SAYA; PowerWise: N; CompType: Switcher; Published: 9-Oct-2009; DatasheetVersion: Jun-2009; PackageVersion: revF, Apr-2008; PackageReference: MUA08A; Publisher: Altium Limited; PackageDescription: MINI SOIC, .118 x .118 x .034in, 8 Lead, .0256in Pitch; RoHS: Y; PinCount: 8; Code_JEDEC: MO-187-AA; ComponentLink1Description: LM5008A Datasheet; ComponentLink1URL: http://www.national.com/ds/LM/LM5008A.pdf; ComponentLink2Description: LM5008A Web Page; ComponentLink2URL: http://www.national.com/pf/LM/LM5008A.html; ComponentLink3Description: MUA08A Package Page; ComponentLink3URL: http://www.national.com/packaging/folders/mua08a.html
footprint MUA08A_N (TSOP, 8-Leads, Body 3x3mm, Pitch 0.65mm, IPC Medium Density)
footprint MUA08A_L (TSOP, 8-Leads, Body 3x3mm, Pitch 0.65mm, IPC High Density)
footprint MUA08A_M (TSOP, 8-Leads, Body 3x3mm, Pitch 0.65mm, IPC Low Density)
pins: 1 SW (power), 2 BST (in), 3 RCL (in), 4 RTN (power), 5 FB (in), 6 RT/SD (in), 7 VCC (power), 8 VIN (power)

## LM5008AMM/NOPB
designator U?
100V, 350 mA Constant On-Time Buck Switching Regulator, 8-pin MSOP, Pb-Free; PartNumber: LM5008AMM/NOPB; Manufacturer: National Semiconductor; PackageTopMarking: ZXTT*SAYA; PowerWise: N; CompType: Switcher; Published: 1-Mar-2010; DatasheetVersion: Jun-2009; PackageVersion: revF, Apr-2008; PackageReference: MUA08A; Publisher: Altium Limited; PackageDescription: MINI SOIC, .118 x .118 x .034in, 8 Lead, .0256in Pitch; Supplier 1: Digi-Key; Supplier Part Number 1: LM5008AMMTR-ND; Supplier 2: Digi-Key; Supplier Part Number 2: LM5008AMMCT-ND; Supplier 3: Digi-Key; Supplier Part Number 3: LM5008AMMDKR-ND; Supplier 4: Farnell; Supplier Part Number 4: 1735798; RoHS: Y; PinCount: 8; Code_JEDEC: MO-187-AA; ComponentLink1Description: LM5008A Datasheet; ComponentLink1URL: http://www.national.com/ds/LM/LM5008A.pdf; ComponentLink2Description: LM5008A Web Page; ComponentLink2URL: http://www.national.com/pf/LM/LM5008A.html; ComponentLink3Description: MUA08A Package Page; ComponentLink3URL: http://www.national.com/packaging/folders/mua08a.html
footprint MUA08A_N (TSOP, 8-Leads, Body 3x3mm, Pitch 0.65mm, IPC Medium Density)
footprint MUA08A_L (TSOP, 8-Leads, Body 3x3mm, Pitch 0.65mm, IPC High Density)
footprint MUA08A_M (TSOP, 8-Leads, Body 3x3mm, Pitch 0.65mm, IPC Low Density)
pins: 1 SW (power), 2 BST (in), 3 RCL (in), 4 RTN (power), 5 FB (in), 6 RT/SD (in), 7 VCC (power), 8 VIN (power)

## LM5008AMMX/NOPB
designator U?
100V, 350 mA Constant On-Time Buck Switching Regulator, 8-pin MSOP, Pb-Free; PartNumber: LM5008AMMX/NOPB; Manufacturer: National Semiconductor; PackageTopMarking: ZXTT*SAYA; PowerWise: N; CompType: Switcher; Published: 1-Mar-2010; DatasheetVersion: Jun-2009; PackageVersion: revF, Apr-2008; PackageReference: MUA08A; Publisher: Altium Limited; PackageDescription: MINI SOIC, .118 x .118 x .034in, 8 Lead, .0256in Pitch; Supplier 1: Digi-Key; Supplier Part Number 1: LM5008AMMX-ND; RoHS: Y; PinCount: 8; Code_JEDEC: MO-187-AA; ComponentLink1Description: LM5008A Datasheet; ComponentLink1URL: http://www.national.com/ds/LM/LM5008A.pdf; ComponentLink2Description: LM5008A Web Page; ComponentLink2URL: http://www.national.com/pf/LM/LM5008A.html; ComponentLink3Description: MUA08A Package Page; ComponentLink3URL: http://www.national.com/packaging/folders/mua08a.html
footprint MUA08A_N (TSOP, 8-Leads, Body 3x3mm, Pitch 0.65mm, IPC Medium Density)
footprint MUA08A_L (TSOP, 8-Leads, Body 3x3mm, Pitch 0.65mm, IPC High Density)
footprint MUA08A_M (TSOP, 8-Leads, Body 3x3mm, Pitch 0.65mm, IPC Low Density)
pins: 1 SW (power), 2 BST (in), 3 RCL (in), 4 RTN (power), 5 FB (in), 6 RT/SD (in), 7 VCC (power), 8 VIN (power)

## LM5008ASD
designator U?
High Voltage (100V) Step Down Switching Regulator, 8-pin LLP; PartNumber: LM5008ASD; Manufacturer: National Semiconductor; PackageTopMarking: NS*UZXYTT*L00070A; PowerWise: N; CompType: Switcher; Published: 9-Oct-2009; DatasheetVersion: Jun-2009; PackageVersion: revA, Mar-2006; PackageReference: SDC08B; Publisher: Altium Limited; PackageDescription: LLP, Dual, 4 x 4 x 0.8mm Body, 8 Lead, 0.8mm Pitch, No Pullback, 1.98 x 3mm Exposed Pad; RoHS: Y; PinCount: 8; ComponentLink1Description: LM5008A Datasheet; ComponentLink1URL: http://www.national.com/ds/LM/LM5008A.pdf; ComponentLink2Description: LM5008A Web Page; ComponentLink2URL: http://www.national.com/pf/LM/LM5008A.html; ComponentLink3Description: SDC08B Package Page; ComponentLink3URL: http://www.national.com/packaging/folders/sdc08b.html
footprint SDC08B (SON, 8-Leads, Body 4x4mm, Pitch 0.8mm, NSC Recommended)
pins: 1 SW (power), 2 BST (in), 3 RCL (in), 4 RTN (power), 5 FB (in), 6 RT/SD (in), 7 VCC (power), 8 VIN (power), 9 EP (power)

## LM5008ASD/NOPB
designator U?
100V, 350 mA Constant On-Time Buck Switching Regulator, 8-pin LLP, Pb-Free; PartNumber: LM5008ASD/NOPB; Manufacturer: National Semiconductor; PackageTopMarking: NS*UZXYTT*L00070A; PowerWise: N; CompType: Switcher; Published: 1-Mar-2010; DatasheetVersion: Jun-2009; PackageVersion: revA, Mar-2006; PackageReference: SDC08B; Publisher: Altium Limited; PackageDescription: LLP, Dual, 4 x 4 x 0.8mm Body, 8 Lead, 0.8mm Pitch, No Pullback, 1.98 x 3mm Exposed Pad; Supplier 1: Digi-Key; Supplier Part Number 1: LM5008ASDTR-ND; Supplier 2: Digi-Key; Supplier Part Number 2: LM5008ASDCT-ND; Supplier 3: Digi-Key; Supplier Part Number 3: LM5008ASDDKR-ND; Supplier 4: Farnell; Supplier Part Number 4: 1735799; RoHS: Y; PinCount: 8; ComponentLink1Description: LM5008A Datasheet; ComponentLink1URL: http://www.national.com/ds/LM/LM5008A.pdf; ComponentLink2Description: LM5008A Web Page; ComponentLink2URL: http://www.national.com/pf/LM/LM5008A.html; ComponentLink3Description: SDC08B Package Page; ComponentLink3URL: http://www.national.com/packaging/folders/sdc08b.html
footprint SDC08B (SON, 8-Leads, Body 4x4mm, Pitch 0.8mm, NSC Recommended)
pins: 1 SW (power), 2 BST (in), 3 RCL (in), 4 RTN (power), 5 FB (in), 6 RT/SD (in), 7 VCC (power), 8 VIN (power), 9 EP (power)

## LM5008ASDX/NOPB
designator U?
100V, 350 mA Constant On-Time Buck Switching Regulator, 8-pin LLP, Pb-Free; PartNumber: LM5008ASDX/NOPB; Manufacturer: National Semiconductor; PackageTopMarking: NS*UZXYTT*L00070A; PowerWise: N; CompType: Switcher; Published: 1-Mar-2010; DatasheetVersion: Jun-2009; PackageVersion: revA, Mar-2006; PackageReference: SDC08B; Publisher: Altium Limited; PackageDescription: LLP, Dual, 4 x 4 x 0.8mm Body, 8 Lead, 0.8mm Pitch, No Pullback, 1.98 x 3mm Exposed Pad; Supplier 1: Digi-Key; Supplier Part Number 1: LM5008ASDX-ND; RoHS: Y; PinCount: 8; ComponentLink1Description: LM5008A Datasheet; ComponentLink1URL: http://www.national.com/ds/LM/LM5008A.pdf; ComponentLink2Description: LM5008A Web Page; ComponentLink2URL: http://www.national.com/pf/LM/LM5008A.html; ComponentLink3Description: SDC08B Package Page; ComponentLink3URL: http://www.national.com/packaging/folders/sdc08b.html
footprint SDC08B (SON, 8-Leads, Body 4x4mm, Pitch 0.8mm, NSC Recommended)
pins: 1 SW (power), 2 BST (in), 3 RCL (in), 4 RTN (power), 5 FB (in), 6 RT/SD (in), 7 VCC (power), 8 VIN (power), 9 EP (power)

## LM5008MM
designator U?
High Voltage (100V) Step Down Switching Regulator, 8-pin MSOP; PartNumber: LM5008MM; Manufacturer: National Semiconductor; PackageTopMarking: ZXTT*SAYB; PowerWise: N; CompType: Switcher; Published: 1-Mar-2010; DatasheetVersion: Apr-2009; PackageVersion: revF, Apr-2008; PackageReference: MUA08A; Publisher: Altium Limited; PackageDescription: MINI SOIC, .118 x .118 x .034in, 8 Lead, .0256in Pitch; Supplier 1: Farnell; Supplier Part Number 1: 8181721RL; Supplier 2: Farnell; Supplier Part Number 2: 8181721; RoHS: N; PinCount: 8; Code_JEDEC: MO-187-AA; ComponentLink1Description: LM5008 Datasheet; ComponentLink1URL: http://www.national.com/ds/LM/LM5008.pdf; ComponentLink2Description: LM5008 Web Page; ComponentLink2URL: http://www.national.com/pf/LM/LM5008.html; ComponentLink3Description: MUA08A Package Page; ComponentLink3URL: http://www.national.com/packaging/folders/mua08a.html
footprint MUA08A_N (TSOP, 8-Leads, Body 3x3mm, Pitch 0.65mm, IPC Medium Density)
footprint MUA08A_L (TSOP, 8-Leads, Body 3x3mm, Pitch 0.65mm, IPC High Density)
footprint MUA08A_M (TSOP, 8-Leads, Body 3x3mm, Pitch 0.65mm, IPC Low Density)
pins: 1 SW (power), 2 BST (in), 3 RCL (in), 4 RTN (power), 5 FB (in), 6 RON/SD (in), 7 VCC (power), 8 VIN (power)

## LM5008MM/NOPB
designator U?
High Voltage (100V) Step Down Switching Regulator, 8-pin MSOP, Pb-Free; PartNumber: LM5008MM/NOPB; Manufacturer: National Semiconductor; PackageTopMarking: ZXTT*SAYB; PowerWise: N; CompType: Switcher; Published: 1-Mar-2010; DatasheetVersion: Apr-2009; PackageVersion: revF, Apr-2008; PackageReference: MUA08A; Publisher: Altium Limited; PackageDescription: MINI SOIC, .118 x .118 x .034in, 8 Lead, .0256in Pitch; Supplier 1: Digi-Key; Supplier Part Number 1: LM5008MMTR-ND; Supplier 2: Digi-Key; Supplier Part Number 2: LM5008MMCT-ND; Supplier 3: Digi-Key; Supplier Part Number 3: LM5008MMDKR-ND; Supplier 4: Farnell; Supplier Part Number 4: 1496181; RoHS: Y; PinCount: 8; Code_JEDEC: MO-187-AA; ComponentLink1Description: LM5008 Datasheet; ComponentLink1URL: http://www.national.com/ds/LM/LM5008.pdf; ComponentLink2Description: LM5008 Web Page; ComponentLink2URL: http://www.national.com/pf/LM/LM5008.html; ComponentLink3Description: MUA08A Package Page; ComponentLink3URL: http://www.national.com/packaging/folders/mua08a.html
footprint MUA08A_N (TSOP, 8-Leads, Body 3x3mm, Pitch 0.65mm, IPC Medium Density)
footprint MUA08A_L (TSOP, 8-Leads, Body 3x3mm, Pitch 0.65mm, IPC High Density)
footprint MUA08A_M (TSOP, 8-Leads, Body 3x3mm, Pitch 0.65mm, IPC Low Density)
pins: 1 SW (power), 2 BST (in), 3 RCL (in), 4 RTN (power), 5 FB (in), 6 RON/SD (in), 7 VCC (power), 8 VIN (power)

## LM5008MMX
designator U?
High Voltage (100V) Step Down Switching Regulator, 8-pin MSOP; PartNumber: LM5008MMX; Manufacturer: National Semiconductor; PackageTopMarking: ZXTT*SAYB; PowerWise: N; CompType: Switcher; Published: 1-Mar-2010; DatasheetVersion: Apr-2009; PackageVersion: revF, Apr-2008; PackageReference: MUA08A; Publisher: Altium Limited; PackageDescription: MINI SOIC, .118 x .118 x .034in, 8 Lead, .0256in Pitch; RoHS: N; PinCount: 8; Code_JEDEC: MO-187-AA; ComponentLink1Description: LM5008 Datasheet; ComponentLink1URL: http://www.national.com/ds/LM/LM5008.pdf; ComponentLink2Description: LM5008 Web Page; ComponentLink2URL: http://www.national.com/pf/LM/LM5008.html; ComponentLink3Description: MUA08A Package Page; ComponentLink3URL: http://www.national.com/packaging/folders/mua08a.html
footprint MUA08A_N (TSOP, 8-Leads, Body 3x3mm, Pitch 0.65mm, IPC Medium Density)
footprint MUA08A_L (TSOP, 8-Leads, Body 3x3mm, Pitch 0.65mm, IPC High Density)
footprint MUA08A_M (TSOP, 8-Leads, Body 3x3mm, Pitch 0.65mm, IPC Low Density)
pins: 1 SW (power), 2 BST (in), 3 RCL (in), 4 RTN (power), 5 FB (in), 6 RON/SD (in), 7 VCC (power), 8 VIN (power)

## LM5008SDC
designator U?
High Voltage (100V) Step Down Switching Regulator, 8-pin LLP; PartNumber: LM5008SDC; Manufacturer: National Semiconductor; PackageTopMarking: NS*UZXYTT*L5008SD; PowerWise: N; CompType: Switcher; Published: 4-Dec-2008; LatestRevisionDate: 09-Oct-2009; LatestRevisionNote: pin 6 re-named.; DatasheetVersion: Apr-2009; PackageVersion: revA, Mar-2006; PackageReference: SDC08B; Publisher: Altium Limited; PackageDescription: LLP, Dual, 4 x 4 x 0.8mm Body, 8 Lead, 0.8mm Pitch, No Pullback, 1.98 x 3mm Exposed Pad; RoHS: N; PinCount: 8; ComponentLink1Description: LM5008 Datasheet; ComponentLink1URL: http://www.national.com/ds/LM/LM5008.pdf; ComponentLink2Description: LM5008 Web Page; ComponentLink2URL: http://www.national.com/pf/LM/LM5008.html; ComponentLink3Description: SDC08B Package Page; ComponentLink3URL: http://www.national.com/packaging/folders/sdc08b.html
footprint SDC08B (SON, 8-Leads, Body 4x4mm, Pitch 0.8mm, NSC Recommended)
pins: 1 SW (power), 2 BST (in), 3 RCL (in), 4 RTN (power), 5 FB (in), 6 RON/SD (in), 7 VCC (power), 8 VIN (power), 9 EP (power)

## LM5008SDC/NOPB
designator U?
High Voltage (100V) Step Down Switching Regulator, 8-pin LLP, Pb-Free; PartNumber: LM5008SDC/NOPB; Manufacturer: National Semiconductor; PackageTopMarking: NS*UZXYTT*L5008SD; PowerWise: N; CompType: Switcher; Published: 1-Mar-2010; DatasheetVersion: Apr-2009; PackageVersion: revA, Mar-2006; PackageReference: SDC08B; Publisher: Altium Limited; PackageDescription: LLP, Dual, 4 x 4 x 0.8mm Body, 8 Lead, 0.8mm Pitch, No Pullback, 1.98 x 3mm Exposed Pad; Supplier 1: Digi-Key; Supplier Part Number 1: LM5008SDCTR-ND; Supplier 2: Digi-Key; Supplier Part Number 2: LM5008SDCCT-ND; Supplier 3: Digi-Key; Supplier Part Number 3: LM5008SDCDKR-ND; Supplier 4: Farnell; Supplier Part Number 4: 1694472; RoHS: Y; PinCount: 8; ComponentLink1Description: LM5008 Datasheet; ComponentLink1URL: http://www.national.com/ds/LM/LM5008.pdf; ComponentLink2Description: LM5008 Web Page; ComponentLink2URL: http://www.national.com/pf/LM/LM5008.html; ComponentLink3Description: SDC08B Package Page; ComponentLink3URL: http://www.national.com/packaging/folders/sdc08b.html
footprint SDC08B (SON, 8-Leads, Body 4x4mm, Pitch 0.8mm, NSC Recommended)
pins: 1 SW (power), 2 BST (in), 3 RCL (in), 4 RTN (power), 5 FB (in), 6 RON/SD (in), 7 VCC (power), 8 VIN (power), 9 EP (power)

## LM5008SDCX
designator U?
High Voltage (100V) Step Down Switching Regulator, 8-pin LLP; PartNumber: LM5008SDCX; Manufacturer: National Semiconductor; PackageTopMarking: NS*UZXYTT*L5008SD; PowerWise: N; CompType: Switcher; Published: 1-Mar-2010; DatasheetVersion: Apr-2009; PackageVersion: revA, Mar-2006; PackageReference: SDC08B; Publisher: Altium Limited; PackageDescription: LLP, Dual, 4 x 4 x 0.8mm Body, 8 Lead, 0.8mm Pitch, No Pullback, 1.98 x 3mm Exposed Pad; RoHS: N; PinCount: 8; ComponentLink1Description: LM5008 Datasheet; ComponentLink1URL: http://www.national.com/ds/LM/LM5008.pdf; ComponentLink2Description: LM5008 Web Page; ComponentLink2URL: http://www.national.com/pf/LM/LM5008.html; ComponentLink3Description: SDC08B Package Page; ComponentLink3URL: http://www.national.com/packaging/folders/sdc08b.html
footprint SDC08B (SON, 8-Leads, Body 4x4mm, Pitch 0.8mm, NSC Recommended)
pins: 1 SW (power), 2 BST (in), 3 RCL (in), 4 RTN (power), 5 FB (in), 6 RON/SD (in), 7 VCC (power), 8 VIN (power), 9 EP (power)

## LM5008SDCX/NOPB
designator U?
High Voltage (100V) Step Down Switching Regulator, 8-pin LLP, Pb-Free; PartNumber: LM5008SDCX/NOPB; Manufacturer: National Semiconductor; PackageTopMarking: NS*UZXYTT*L5008SD; PowerWise: N; CompType: Switcher; Published: 1-Mar-2010; DatasheetVersion: Apr-2009; PackageVersion: revA, Mar-2006; PackageReference: SDC08B; Publisher: Altium Limited; PackageDescription: LLP, Dual, 4 x 4 x 0.8mm Body, 8 Lead, 0.8mm Pitch, No Pullback, 1.98 x 3mm Exposed Pad; Supplier 1: Digi-Key; Supplier Part Number 1: LM5008SDCX-ND; RoHS: Y; PinCount: 8; ComponentLink1Description: LM5008 Datasheet; ComponentLink1URL: http://www.national.com/ds/LM/LM5008.pdf; ComponentLink2Description: LM5008 Web Page; ComponentLink2URL: http://www.national.com/pf/LM/LM5008.html; ComponentLink3Description: SDC08B Package Page; ComponentLink3URL: http://www.national.com/packaging/folders/sdc08b.html
footprint SDC08B (SON, 8-Leads, Body 4x4mm, Pitch 0.8mm, NSC Recommended)
pins: 1 SW (power), 2 BST (in), 3 RCL (in), 4 RTN (power), 5 FB (in), 6 RON/SD (in), 7 VCC (power), 8 VIN (power), 9 EP (power)

## LM5009AMM
designator U?
150 mA, 100V Step-Down Switching Regulator, 8-pin MSOP; PartNumber: LM5009AMM; Manufacturer: National Semiconductor; PackageTopMarking: ZXTT*SLLA; PowerWise: Y; CompType: Switcher; Published: 9-Oct-2009; DatasheetVersion: Jun-2009; PackageVersion: revF, Apr-2008; PackageReference: MUA08A; Publisher: Altium Limited; PackageDescription: MINI SOIC, .118 x .118 x .034in, 8 Lead, .0256in Pitch; RoHS: Y; PinCount: 8; Code_JEDEC: MO-187-AA; ComponentLink1Description: LM5009A Datasheet; ComponentLink1URL: http://www.national.com/ds/LM/LM5009A.pdf; ComponentLink2Description: LM5009A Web Page; ComponentLink2URL: http://www.national.com/pf/LM/LM5009A.html; ComponentLink3Description: MUA08A Package Page; ComponentLink3URL: http://www.national.com/packaging/folders/mua08a.html
footprint MUA08A_N (TSOP, 8-Leads, Body 3x3mm, Pitch 0.65mm, IPC Medium Density)
footprint MUA08A_L (TSOP, 8-Leads, Body 3x3mm, Pitch 0.65mm, IPC High Density)
footprint MUA08A_M (TSOP, 8-Leads, Body 3x3mm, Pitch 0.65mm, IPC Low Density)
pins: 1 SW (power), 2 BST (in), 3 RCL (in), 4 RTN (power), 5 FB (in), 6 RT/SD (in), 7 VCC (power), 8 VIN (power)

## LM5009AMM/NOPB
designator U?
100V, 150 mA Constant On-Time Buck Switching Regulator, 8-pin MSOP, Pb-Free; PartNumber: LM5009AMM/NOPB; Manufacturer: National Semiconductor; PackageTopMarking: ZXTT*SLLA; PowerWise: Y; CompType: Switcher; Published: 1-Mar-2010; DatasheetVersion: Jun-2009; PackageVersion: revF, Apr-2008; PackageReference: MUA08A; Publisher: Altium Limited; PackageDescription: MINI SOIC, .118 x .118 x .034in, 8 Lead, .0256in Pitch; Supplier 1: Digi-Key; Supplier Part Number 1: LM5009AMMTR-ND; Supplier 2: Digi-Key; Supplier Part Number 2: LM5009AMMCT-ND; Supplier 3: Digi-Key; Supplier Part Number 3: LM5009AMMDKR-ND; Supplier 4: Farnell; Supplier Part Number 4: 1735800; RoHS: Y; PinCount: 8; Code_JEDEC: MO-187-AA; ComponentLink1Description: LM5009A Datasheet; ComponentLink1URL: http://www.national.com/ds/LM/LM5009A.pdf; ComponentLink2Description: LM5009A Web Page; ComponentLink2URL: http://www.national.com/pf/LM/LM5009A.html; ComponentLink3Description: MUA08A Package Page; ComponentLink3URL: http://www.national.com/packaging/folders/mua08a.html
footprint MUA08A_N (TSOP, 8-Leads, Body 3x3mm, Pitch 0.65mm, IPC Medium Density)
footprint MUA08A_L (TSOP, 8-Leads, Body 3x3mm, Pitch 0.65mm, IPC High Density)
footprint MUA08A_M (TSOP, 8-Leads, Body 3x3mm, Pitch 0.65mm, IPC Low Density)
pins: 1 SW (power), 2 BST (in), 3 RCL (in), 4 RTN (power), 5 FB (in), 6 RT/SD (in), 7 VCC (power), 8 VIN (power)

## LM5009AMMX/NOPB
designator U?
100V, 150 mA Constant On-Time Buck Switching Regulator, 8-pin MSOP, Pb-Free; PartNumber: LM5009AMMX/NOPB; Manufacturer: National Semiconductor; PackageTopMarking: ZXTT*SLLA; PowerWise: Y; CompType: Switcher; Published: 1-Mar-2010; DatasheetVersion: Jun-2009; PackageVersion: revF, Apr-2008; PackageReference: MUA08A; Publisher: Altium Limited; PackageDescription: MINI SOIC, .118 x .118 x .034in, 8 Lead, .0256in Pitch; Supplier 1: Digi-Key; Supplier Part Number 1: LM5009AMMX-ND; RoHS: Y; PinCount: 8; Code_JEDEC: MO-187-AA; ComponentLink1Description: LM5009A Datasheet; ComponentLink1URL: http://www.national.com/ds/LM/LM5009A.pdf; ComponentLink2Description: LM5009A Web Page; ComponentLink2URL: http://www.national.com/pf/LM/LM5009A.html; ComponentLink3Description: MUA08A Package Page; ComponentLink3URL: http://www.national.com/packaging/folders/mua08a.html
footprint MUA08A_N (TSOP, 8-Leads, Body 3x3mm, Pitch 0.65mm, IPC Medium Density)
footprint MUA08A_L (TSOP, 8-Leads, Body 3x3mm, Pitch 0.65mm, IPC High Density)
footprint MUA08A_M (TSOP, 8-Leads, Body 3x3mm, Pitch 0.65mm, IPC Low Density)
pins: 1 SW (power), 2 BST (in), 3 RCL (in), 4 RTN (power), 5 FB (in), 6 RT/SD (in), 7 VCC (power), 8 VIN (power)

## LM5009ASD
designator U?
150 mA, 100V Step-Down Switching Regulatorr, 8-pin LLP; PartNumber: LM5009ASD; Manufacturer: National Semiconductor; PackageTopMarking: NS*UZXYTT*5009ASD; PowerWise: Y; CompType: Switcher; Published: 9-Oct-2009; DatasheetVersion: Jun-2009; PackageVersion: revA, Mar-2006; PackageReference: SDC08B; Publisher: Altium Limited; PackageDescription: LLP, Dual, 4 x 4 x 0.8mm Body, 8 Lead, 0.8mm Pitch, No Pullback, 1.98 x 3mm Exposed Pad; RoHS: Y; PinCount: 8; ComponentLink1Description: LM5009A Datasheet; ComponentLink1URL: http://www.national.com/ds/LM/LM5009A.pdf; ComponentLink2Description: LM5009A Web Page; ComponentLink2URL: http://www.national.com/pf/LM/LM5009A.html; ComponentLink3Description: SDC08B Package Page; ComponentLink3URL: http://www.national.com/packaging/folders/sdc08b.html
footprint SDC08B (SON, 8-Leads, Body 4x4mm, Pitch 0.8mm, NSC Recommended)
pins: 1 SW (power), 2 BST (in), 3 RCL (in), 4 RTN (power), 5 FB (in), 6 RT/SD (in), 7 VCC (power), 8 VIN (power), 9 EP (power)